# Altium footprint library UDFN8.PcbLib: 1 footprints
Each footprint in its own frame and in the unit in brackets; x right, y up, seen from the top. Pads: shape width x height; smd on the part's side, far side on the other; paste and mask are expansions set on the pad; w line width, h text height; cw(c..) or ccw(c..) is an arc to the next point about the centre after c.
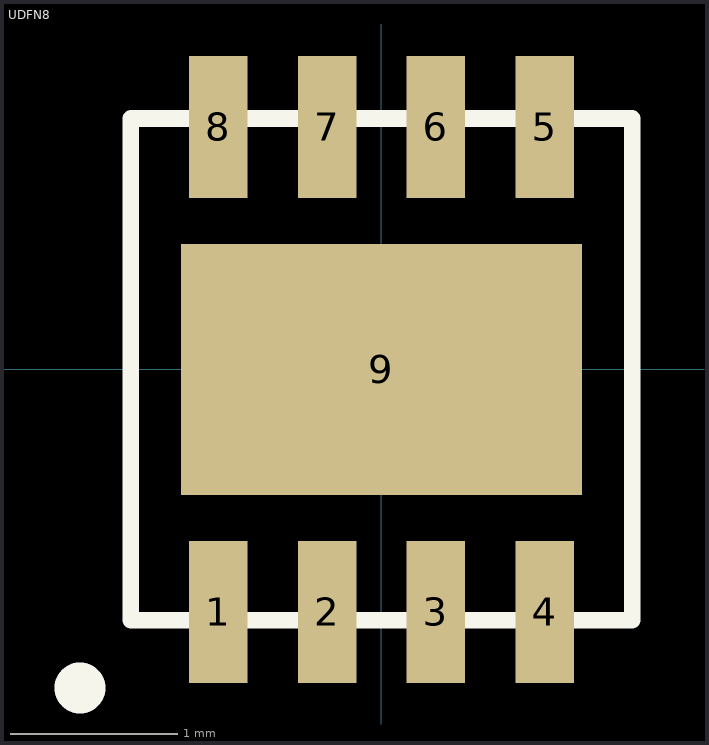
[diagram p0: the footprint, top view; thin cyan lines are the x and y axes]

## UDFN8 [mm]
height 1
pads (9):
  rect 0.35x0.85 smd: 1(-0.975,-1.45) 2(-0.325,-1.45) 3(0.325,-1.45) 4(0.975,-1.45) 5(0.975,1.45) 6(0.325,1.45) 7(-0.325,1.45) 8(-0.975,1.45)
  rect 2.4x1.5 smd paste-10: 9(0,0)
Top Overlay:
  circle w0.254: c-1.803,-1.905 r0.025
  lines w0.1: -1.5,-1.5 1.5,-1.5 1.5,1.5 -1.5,1.5 -1.5,-1.5
Top Paste:
  region: -1.016,0.508 -1.016,-0.508 1.016,-0.508 1.016,0.508
3D body: height 0.5, standoff 0, extent -1.524,-1.524 1.524,1.524